# Altium footprint library Cap.PcbLib: 1 footprints
Each footprint in its own frame and in the unit in brackets; x right, y up, seen from the top. Pads: shape width x height; smd on the part's side, far side on the other; paste and mask are expansions set on the pad; w line width, h text height; cw(c..) or ccw(c..) is an arc to the next point about the centre after c.
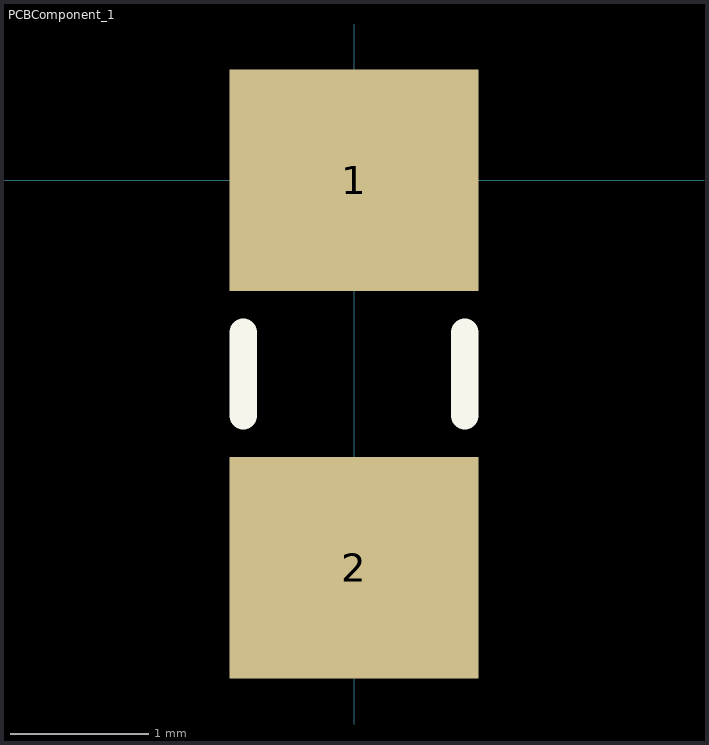
[diagram p0: the footprint, top view; thin cyan lines are the x and y axes]

## PCBComponent_1 [mm]
pads (2):
  rect 1.8x1.6 smd: 1(0,0) 2(0,-2.8)
Top Overlay:
  lines w0.2: -0.8,-1.7 -0.8,-1.1 ; 0.8,-1.7 0.8,-1.1